# Altium schematic symbol library C0201C180K3GACTU.SchLib: 2 symbols
Pins are listed as number, name and electrical type; pins without a type are passive.

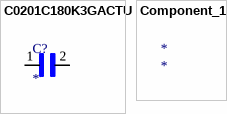
[diagram p0: symbols C0201C180K3GACTU to Component_1]

## C0201C180K3GACTU
designator C?
CAP CER 18PF 25V C0G/NP0 0201; MF: {'manufacturer': u'KEMET'}; MP: C0201C180K3GACTU; Value: *; Availability: Unavailable; Price: None; Package: None
footprint CAPC0603X33N
pins: 1, 2

## Component_1
designator *